# Altium schematic symbol library Shelestov_IC.SchLib: 12 symbols
Pins are listed as number, name and electrical type; pins without a type are passive.

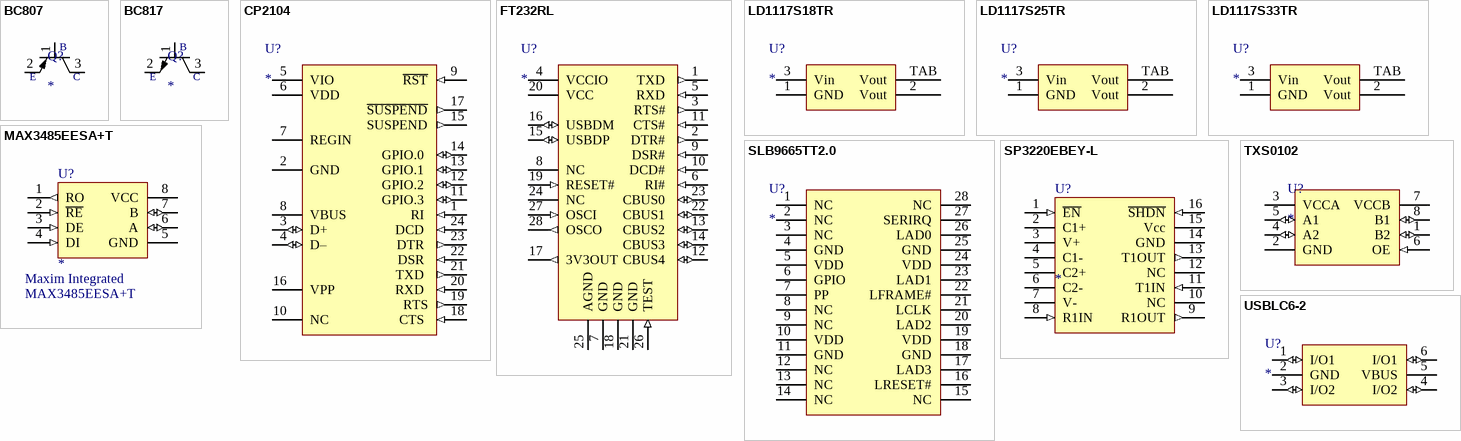
[diagram p0: symbols BC807 to USBLC6-2]

## BC807
designator Q?
PNP general purpose transistors; MP: BC807; ComponentLink1Description: URLLCSC
footprint SOT-23_TO-236
pins: 1 Base, 2 Emitter, 3 Collector
text: B; E; C

## BC817
designator Q?
NPN general purpose transistors; MP: BC817; ComponentLink1Description: URLLCSC
footprint SOT-23_TO-236
pins: 1 Base, 2 Emitter, 3 Collector
text: B; E; C

## CP2104
designator U?
USB-TO-UART BRIDGE
pins: 1 RI  (in) "Ring Indicator control input (active low)", 2 GND  (power), 3 D+  (io) "USB D+", 4 D–  (io) "USB D–", 5 VIO  (power) "I/O Supply Voltage Input.", 6 VDD  (power) ""Power Supply Voltage Input. / Voltage Regulator Output. See Section 9."", 7 REGIN  (power) ""5 V Regulator Input. This pin is the input to the on-chip voltage regu / lator."", 8 VBUS  (power) ""VBUS Sense Input. This pin should be connected to the VBUS signal / of a USB network."", 9 ~{RST} (in) ""Device Reset. Open-drain output of internal POR or VDD monitor. An / external source can initiate a system reset by driving this pin low for / the time specified in Table 4."", 10 NC  "This pin should be left unconnected or tied to VIO.", 11 GPIO.3  (io) "User-configurable input or output.", 12 GPIO.2  (io) "User-configurable input or output.", 13 GPIO.1  (io) "User-configurable input or output.", 14 GPIO.0  (io) "User-configurable input or output.", 15 SUSPEND (out) "This pin is logic low when the CP2104 is in the USB Suspend state.", 16 VPP  (power) ""Connect a 4.7 µF capacitor between this pin and ground to support / ROM programming via USB interface."", 17 ~{SUSPEND} (out) "This pin is logic high when the CP2104 is in the USB Suspend state.", 18 CTS  (in) "Clear to Send control input (active low)", 19 RTS (out) "Ready to Send control output (active low)", 20 RXD  (in) "Asynchronous data input (UART Receive)", 21 TXD  (out) "Asynchronous data output (UART Transmit)", 22 DSR  (in) "Data Set Ready control input (active low)", 23 DTR  (out) "Data Terminal Ready control output (active low)", 24 DCD  (in) "Data Carrier Detect control input (active low)"

## FT232RL
designator U?
USB to UART
footprint SSOP28_0.65_7.8
pins: 1 TXD  (out), 2 DTR#  (out), 3 RTS#  (out), 4 VCCIO  (power), 5 RXD  (in), 6 RI#  (in), 7 GND  (power), 8 NC, 9 DSR#  (in), 10 DCD#  (in), 11 CTS#  (in), 12 CBUS4  (io), 13 CBUS2  (io), 14 CBUS3  (io), 15 USBDP  (io), 16 USBDM  (io), 17 3V3OUT  (out), 18 GND  (power), 19 RESET#  (in), 20 VCC  (power), 21 GND  (power), 22 CBUS1  (io), 23 CBUS0  (io), 24 NC, 25 AGND  (power), 26 TEST  (in), 27 OSCI  (in), 28 OSCO  (out)

## LD1117S18TR
designator U?
Low drop fixed and adjustable positive voltage regulators
footprint SOT-223
pins: 1 GND, 2 Vout, 3 Vin, TAB Vout

## LD1117S25TR
designator U?
Low drop fixed and adjustable positive voltage regulators
footprint SOT-223
pins: 1 GND, 2 Vout, 3 Vin, TAB Vout

## LD1117S33TR
designator U?
Low drop fixed and adjustable positive voltage regulators
footprint SOT-223
pins: 1 GND, 2 Vout, 3 Vin, TAB Vout

## MAX3485EESA+T
designator U?  MF: Maxim Integrated  MP: MAX3485EESA+T
Transceiver RS485 1/1 12Mbps SOIC-8_150mil RS-485/RS-422 ICs RoHS; LCSCURL: https://lcsc.com/product-detail/RS-485-RS-422-ICs_Maxim-Integrated_MAX3485EESA-T_Maxim-Integrated-MAX3485EESA-T_C9943.html; LCSC: C9943; PriceLCSC: 1.3615
footprint SO-8-SOIC127P600X175-8N
pins: 1 RO (out), 2 ~{RE} (in), 3 DE (in), 4 DI (in), 5 GND (power), 6 A (io), 7 B (io), 8 VCC (power)

## SLB9665TT2.0
designator U?
TPM SLB 9665 TPM2.0 Trusted Platform Module
footprint TSSOP-28-2
pins: 1 NC, 2 NC, 3 NC, 4 GND (power), 5 VDD (power), 6 GPIO, 7 PP, 8 NC, 9 NC, 10 VDD (power), 11 GND (power), 12 NC, 13 NC, 14 NC, 15 NC, 16 LRESET#, 17 LAD3, 18 GND (power), 19 VDD (power), 20 LAD2, 21 LCLK, 22 LFRAME#, 23 LAD1, 24 VDD (power), 25 GND (power), 26 LAD0, 27 SERIRQ, 28 NC

## SP3220EBEY-L
designator U?
UART LEVEL SHIFTER; LCSCURL: https://lcsc.com/product-detail/Pre-ordered-Chips_MaxLinear-SP3220EBEY-L_C1543923.html; LCSC: C1543923; PriceLCSC: 1.3615
footprint TSSOP16
pins: 1 ~{EN} (in), 2 C1+ (power), 3 V+ (power), 4 C1- (power), 5 C2+ (power), 6 C2- (power), 7 V- (power), 8 R1IN (in), 9 R1OUT (out), 10 NC, 11 T1IN (in), 12 NC, 13 T1OUT (out), 14 GND (power), 15 Vcc (power), 16 ~{SHDN} (in)

## TXS0102
designator U?
2-Bit Bidirectional Voltage-Level Translator for Open-Drain and Push-Pull Applications
footprint VSSOP-8_2.3x2
footprint SSOP-8_2.95x2.8
pins: 1 B2 (io), 2 GND (power), 3 VCCA (power), 4 A2 (io), 5 A1 (io), 6 OE (in), 7 VCCB (power), 8 B1 (io)

## USBLC6-2
designator U?
Very low capacitance ESD protection; PriceKosmodromUAH: 4,25; Kosmodrom: http://www.kosmodrom.com.ua/el.php?name=USBLC6-2P6
footprint SOT-666
footprint SOT-23-6L
pins: 1 I/O1 (io), 2 GND (power), 3 I/O2 (io), 4 I/O2 (io), 5 VBUS (power), 6 I/O1 (io)